# Altium footprint library OTHERTEST.PCBLIB: 44 footprints (part 2 of 3)
Each footprint in its own frame and in the unit in brackets; x right, y up, seen from the top. Pads: shape width x height; smd on the part's side, far side on the other; paste and mask are expansions set on the pad; w line width, h text height; cw(c..) or ccw(c..) is an arc to the next point about the centre after c.
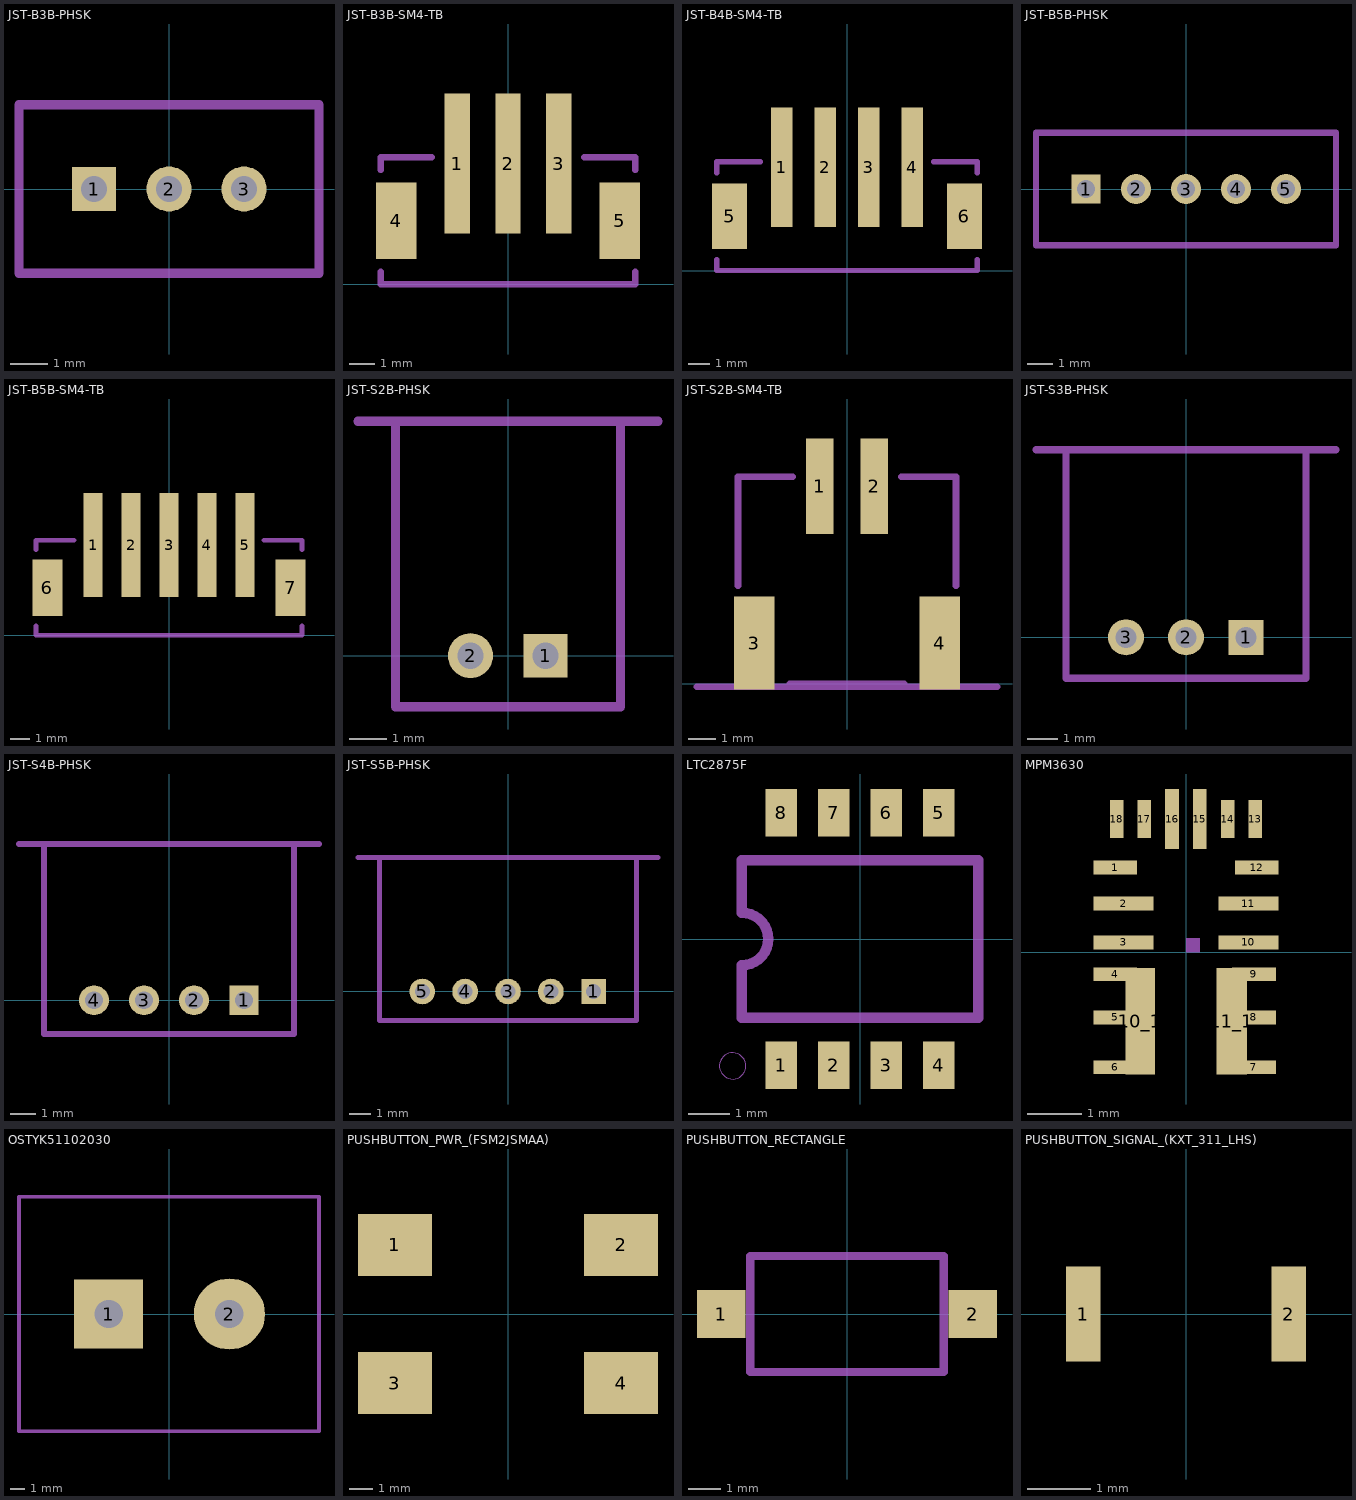
[diagram p1: the footprints below, top view; thin cyan lines are the x and y axes]

## JST-B3B-PHSK [mm]
pads (3):
  rect 1.162x1.162 / inner rect 1.524x1.524 / far side rect 1.162x1.162 hole 0.7: 1(-2,0)
  round 1.2 / inner round 1.524 / far side round 1.2 hole 0.7: 2(0,0) 3(2,0)
Mechanical 22:
  lines w0.25: -4,-2.25 4,-2.25 4,2.25 -4,2.25 -4,-2.25

## JST-B3B-SM4-TB [mm]
pads (5):
  rect 1x5.5 smd: 1(-2,4.75) 2(0,4.75) 3(2,4.75)
  rect 1.6x3 smd: 4(-4.4,2.5) 5(4.4,2.5)
Mechanical 22:
  lines w0.25: -5,0.5 -5,0 5,0 5,0.5 ; -5,4.5 -5,5 -3,5 ; 3,5 5,5 5,4.5

## JST-B4B-SM4-TB [mm]
pads (6):
  rect 1x5.5 smd: 1(-3,4.75) 2(-1,4.75) 3(1,4.75) 4(3,4.75)
  rect 1.6x3 smd: 5(-5.4,2.5) 6(5.4,2.5)
Mechanical 22:
  lines w0.25: -6,0.5 -6,0 6,0 6,0.5 ; -6,4.5 -6,5 -4,5 ; 4,5 6,5 6,4.5

## JST-B5B-PHSK [mm]
pads (5):
  rect 1.162x1.162 / inner rect 1.524x1.524 / far side rect 1.162x1.162 hole 0.7: 1(-4,0)
  round 1.2 / inner round 1.524 / far side round 1.2 hole 0.7: 2(-2,0) 3(0,0) 4(2,0) 5(4,0)
Mechanical 22:
  lines w0.25: -6,-2.25 6,-2.25 6,2.25 -6,2.25 -6,-2.25

## JST-B5B-SM4-TB [mm]
pads (7):
  rect 1x5.5 smd: 1(-4,4.75) 2(-2,4.75) 3(0,4.75) 4(2,4.75) 5(4,4.75)
  rect 1.6x3 smd: 6(-6.4,2.5) 7(6.4,2.5)
Mechanical 22:
  lines w0.25: -7,0.5 -7,0 7,0 7,0.5 ; -7,4.5 -7,5 -5,5 ; 5,5 7,5 7,4.5

## JST-S2B-PHSK [mm]
pads (2):
  rect 1.162x1.162 / inner rect 1.524x1.524 / far side rect 1.162x1.162 hole 0.7: 1(1,0)
  round 1.2 / inner round 1.524 / far side round 1.2 hole 0.7: 2(-1,0)
Mechanical 8:
  lines w0.25: -4,6.25 4,6.25
Mechanical 22:
  lines w0.25: -3,-1.36 3,-1.36 3,6.25 -3,6.25 -3,-1.36

## JST-S2B-SM4-TB [mm]
pads (4):
  rect 1x3.5 smd: 1(-1,7.25) 2(1,7.25)
  rect 1.5x3.4 smd: 3(-3.4,1.5) 4(3.4,1.5)
Mechanical 8:
  lines w0.25: -5.5,-0.1 5.5,-0.1
Mechanical 22:
  lines w0.25: -4,3.6 -4,7.599 -2,7.599 ; -2.1,0 2.1,0 ; 2,7.599 4,7.599 4,3.6

## JST-S3B-PHSK [mm]
pads (3):
  rect 1.162x1.162 / inner rect 1.524x1.524 / far side rect 1.162x1.162 hole 0.7: 1(2,0)
  round 1.2 / inner round 1.524 / far side round 1.2 hole 0.7: 2(0,0) 3(-2,0)
Mechanical 8:
  lines w0.25: -5,6.25 5,6.25
Mechanical 22:
  lines w0.25: -4,-1.36 4,-1.36 4,6.25 -4,6.25 -4,-1.36

## JST-S4B-PHSK [mm]
pads (4):
  rect 1.162x1.162 / inner rect 1.524x1.524 / far side rect 1.162x1.162 hole 0.7: 1(3,0)
  round 1.2 / inner round 1.524 / far side round 1.2 hole 0.7: 2(1,0) 3(-1,0) 4(-3,0)
Mechanical 8:
  lines w0.25: -6,6.25 6,6.25
Mechanical 22:
  lines w0.25: -5,-1.35 5,-1.35 5,6.25 -5,6.25 -5,-1.35

## JST-S5B-PHSK [mm]
pads (5):
  rect 1.162x1.162 / inner rect 1.524x1.524 / far side rect 1.162x1.162 hole 0.7: 1(4,0)
  round 1.2 / inner round 1.524 / far side round 1.2 hole 0.7: 2(2,0) 3(0,0) 4(-2,0) 5(-4,0)
Mechanical 8:
  lines w0.25: -7,6.25 7,6.25
Mechanical 22:
  lines w0.25: -6,-1.35 6,-1.35 6,6.25 -6,6.25 -6,-1.35

## LTC2875F [mil]
pads (8):
  rect 30x45 smd: 1(-75,-120.24) 2(-25,-120.24) 3(25,-120.24) 4(75,-120.24) 5(75,120.24) 6(25,120.24) 7(-25,120.24) 8(-75,120.24)
Mechanical 22:
  circle w0: c-121.38,-120.75 r12.52
  lines w9.84: -112.52,-75 112.48,-75 112.48,75 -112.52,75 -112.52,25 cw(c-112.52,0) -112.52,-25 -112.52,-75

## MPM3630 [mil]
pads (20):
  rect 31.42x10 smd: 1(-50.98,60.98) 4(-50.98,-15.98) 5(-50.98,-47.01) 6(-50.98,-82.99) 7(49.02,-82.99) 8(49.02,-47.01) 9(49.02,-15.98) 12(50.98,60.98)
  rect 43.31x10 smd: 2(-45,35) 3(-45,7.01) 10(45,7.01) 11(45,35)
  rect 21.5x76.77 smd: 10_1(-32.99,-50)
  rect 22.01x76.77 smd: 11_1(32.99,-50)
  rect 9.8x27.56 smd: 13(50,95.98) 14(30,95.98) 17(-30,95.98) 18(-50,95.98)
  rect 9.8x43.31 smd: 15(10,95.98)
  rect 10x43.31 smd: 16(-10,95.98)
Mechanical 22:
  region: 0,0 10,0 10,10 0,10

## OSTYK51102030 [mm]
pads (2):
  rect 4.841x4.841 / inner rect 1.524x1.524 / far side rect 4.841x4.841 hole 2: 1(-4.25,0)
  round 5 / inner round 1.524 / far side round 5 hole 2: 2(4.25,0)
Mechanical 22:
  lines w0.25: -10.55,-8.25 10.55,-8.25 10.55,8.25 -10.55,8.25 -10.55,-8.25

## PUSHBUTTON_PWR_(FSM2JSMAA) [mm]
pads (4):
  rect 3.1x2.6 smd: 1(-4.75,2.9) 2(4.75,2.9) 3(-4.75,-2.9) 4(4.75,-2.9)

## PUSHBUTTON_RECTANGLE [mm]
pads (2):
  rect 1.5x1.5 smd: 1(-3.9,0) 2(3.9,0)
Mechanical 22:
  lines w0.25: -3,-1.8 3,-1.8 3,1.8 -3,1.8 -3,-1.8

## PUSHBUTTON_SIGNAL_(KXT_311_LHS) [mm]
pads (2):
  rect 0.55x1.5 smd: 1(-1.625,0) 2(1.625,0)